# EAGLE library part DIL16 (library yamato)
Dual In Line / Socket
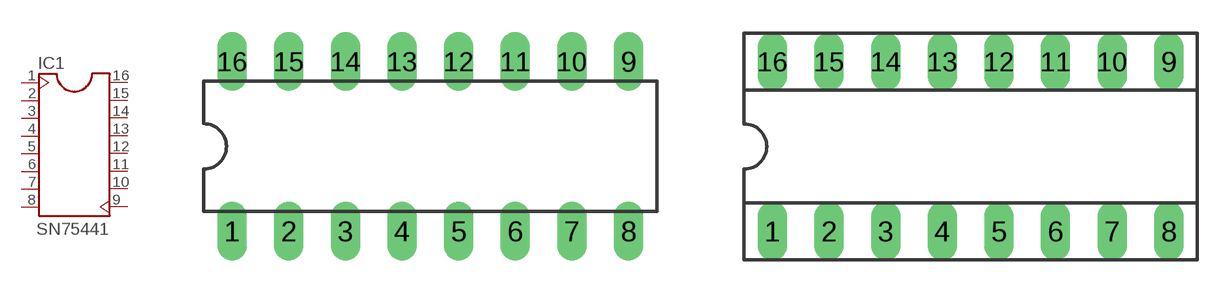
[diagram p1: symbol with the pads of DIL16; footprints DIL16, SOCKET-16]

Designator prefix IC

## DIL16  [DIL16]
1  12EN  in
2  1A  in
3  1Y  out
4  GND  sup
5  GND1  sup
6  2Y  out
7  2A  in
8  VCC2  pwr
9  34EN  in
10  3A  in
11  3Y  out
12  GND2  sup
13  GND3  sup
14  4Y  out
15  4A  in
16  VCC1  pwr

## DIL16S  [SOCKET-16]
Pads as for DIL16

## Footprint DIL16 (pad centres in mm)
Dual In Line Package
drill 0.813 long: 1 -8.89,-3.81; 2 -6.35,-3.81; 3 -3.81,-3.81; 4 -1.27,-3.81; 5 1.27,-3.81; 6 3.81,-3.81; 7 6.35,-3.81; 8 8.89,-3.81; 9 8.89,3.81; 10 6.35,3.81; 11 3.81,3.81; 12 1.27,3.81; 13 -1.27,3.81; 14 -3.81,3.81; 15 -6.35,3.81; 16 -8.89,3.81

## Footprint SOCKET-16 (pad centres in mm)
Dual In Line Socket
drill 0.813 long: 1 -8.89,-3.81; 2 -6.35,-3.81; 3 -3.81,-3.81; 4 -1.27,-3.81; 5 1.27,-3.81; 6 3.81,-3.81; 7 6.35,-3.81; 8 8.89,-3.81; 9 8.89,3.81; 10 6.35,3.81; 11 3.81,3.81; 12 1.27,3.81; 13 -1.27,3.81; 14 -3.81,3.81; 15 -6.35,3.81; 16 -8.89,3.81